# EAGLE library part ADG419BRM-REEL7 (library STM_Library)
LC2MOS Precision Mini-DIP Analog Switch
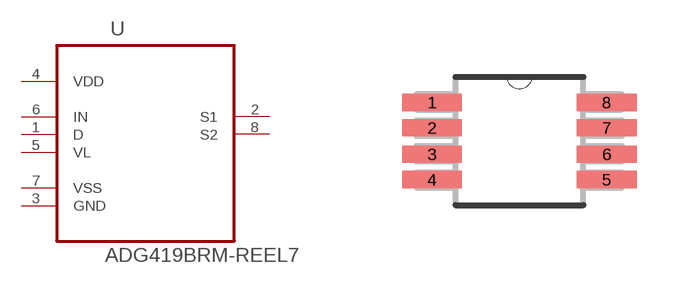
[diagram p3: symbol with the pads of SOP65P490X110-8N; footprint SOP65P490X110-8N]

Designator prefix U

## ADG419BRM-REEL7 (AVAILABILITY: Unavailable; DESCRIPTION: Precision Single Spdt Sw, Reel7; MF: Analog Devices; MP: ADG419BRM-REEL7; PACKAGE: TSSOP-8 Analog Devices; PRICE: None)  [SOP65P490X110-8N]
1  D  pas
2  S1  pas
3  GND  pas
4  VDD  pwr
5  VL  pwr
6  IN  pas
7  VSS  pwr
8  S2  pas

## Footprint SOP65P490X110-8N (pad centres in mm)
smd 1.499 x 0.432: 1 -2.184,0.965; 2 -2.184,0.33; 3 -2.184,-0.33; 4 -2.184,-0.965; 5 2.184,-0.965; 6 2.184,-0.33; 7 2.184,0.33; 8 2.184,0.965